# Altium footprint library STM32 V3.11.PcbLib: 42 footprints (part 3 of 3)
Each footprint in its own frame and in the unit in brackets; x right, y up, seen from the top. Pads: shape width x height; smd on the part's side, far side on the other; paste and mask are expansions set on the pad; w line width, h text height; cw(c..) or ccw(c..) is an arc to the next point about the centre after c.
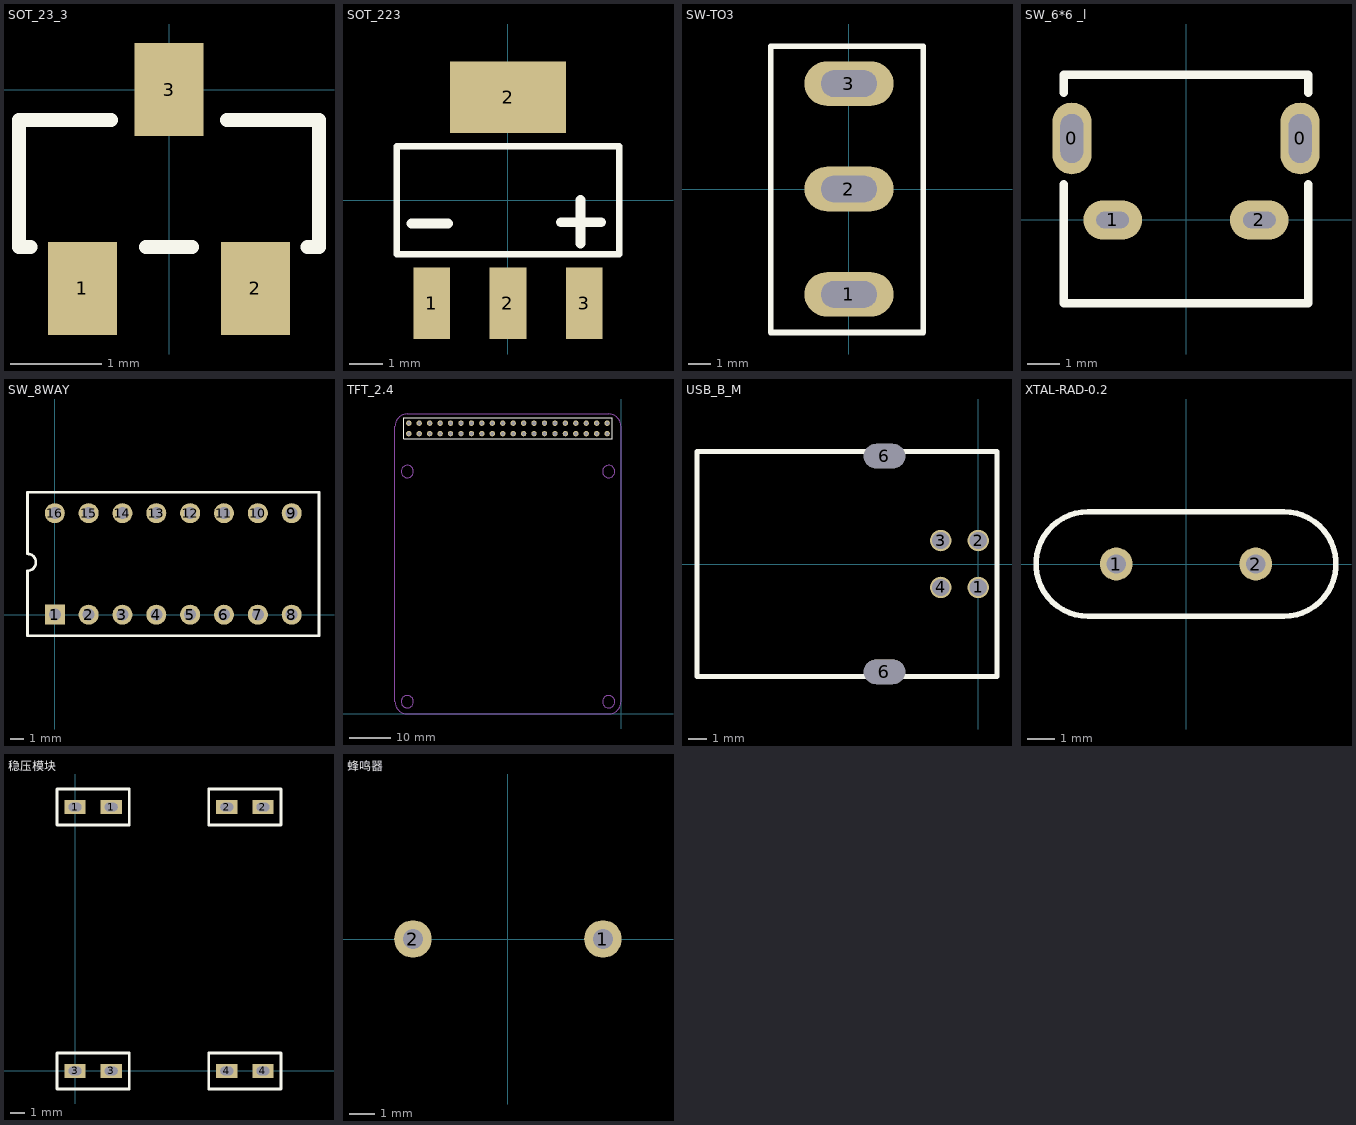
[diagram p2: the footprints below, top view; thin cyan lines are the x and y axes]

## SOT_23_3 [mm]
pads (3):
  rect 0.76x1.02 smd: 1(-0.954,-2.19) 2(0.95,-2.19) 3(0,0)
Top Overlay:
  lines w0.152: -1.525,-1.733 -1.652,-1.733 -1.652,-0.336 -0.636,-0.336 ; -0.255,-1.733 0.253,-1.733 ; 0.634,-0.336 1.65,-0.336 1.65,-1.733 1.523,-1.733
3D body: height 1.2, standoff 0, extent -1.452,-2.495 1.448,0.305

## SOT_223 [mm] "电压转换芯片"
height 1.75
pads (4):
  rect 1.1x2.15 smd: 1(-2.3,-3.1) 2(0,-3.1) 3(2.3,-3.1)
  rect 3.5x2.15 smd: 2(0,3.1)
Top Overlay:
  lines w0.2: -3.35,-1.625 -3.35,1.625 3.35,1.625 3.35,-1.625 -3.35,-1.625
  lines w0.3: -2.9,-0.7 -1.8,-0.7 ; 1.6,-0.663 2.8,-0.663 ; 2.183,-1.3 2.183,0
3D body: height 1.68, standoff 0, extent -3.25,-3.5 3.25,3.46

## SW-TO3 [mm]
height 2.38
pads (3):
  oval 4x2 hole 1.2 slot 2.5 at 0 deg: 1(0,-4.724) 2(0,0) 3(0,4.724)
Top Overlay:
  lines w0.254: -3.504,-6.433 -3.504,6.394 3.329,6.394 3.329,-6.433 -3.504,-6.433
3D body: height 28.55, standoff -3.83, extent -3.43,-6.363 3.43,6.35

## SW_6*6 _l [mm]
pads (4):
  oval 1.2x2.2 hole 0.7 slot 1.5 at 90 deg: 0(-3.5,2.5) 0(3.5,2.5)
  oval 1.8x1.2 hole 0.5 slot 1 at 0 deg: 1(-2.25,0) 2(2.25,0)
Top Overlay:
  lines w0.254: -3.75,1.1 -3.75,-2.55 0,-2.55 3.75,-2.55 3.75,1.1 ; -3.75,3.9 -3.75,4.45 0,4.45 3.75,4.45 3.75,3.9
3D body: height 3.5, standoff -7.4, extent -4.331,-3.073 4.369,4.077

## SW_8WAY [mm]
pads (16):
  rect 1.5x1.5 hole 0.9: 1(0,0)
  round 1.5 hole 0.9: 2(2.54,0) 3(5.08,0) 4(7.62,0) 5(10.16,0) 6(12.7,0) 7(15.24,0) 8(17.78,0) 9(17.78,7.62) 10(15.24,7.62) 11(12.7,7.62) 12(10.16,7.62) 13(7.62,7.62) 14(5.08,7.62) 15(2.54,7.62) 16(0,7.62)
Top Overlay:
  lines w0.2: -2.05,4.57 cw(c-2.05,3.935) -2.05,3.3 -2.05,-1.59 19.83,-1.59 19.83,9.2 -2.05,9.2 -2.05,4.6
3D body: height 7, standoff -3.7, extent -1.618,-1.168 19.702,8.732

## TFT_2.4 [mm]
pads (40):
  round 1.3 / inner round 1.5 / far side round 1.5 hole 0.9: 1(-3.38,70.77) 2(-3.38,68.23) 3(-5.92,70.77) 4(-5.92,68.23) 5(-8.46,70.77) 6(-8.46,68.23) 7(-11,70.77) 8(-11,68.23) 9(-13.54,70.77) 10(-13.54,68.23) 11(-16.08,70.77) 12(-16.08,68.23) 13(-18.62,70.77) 14(-18.62,68.23) 15(-21.16,70.77) 16(-21.16,68.23) 17(-23.7,70.77) 18(-23.7,68.23) 19(-26.24,70.77) 20(-26.24,68.23) 21(-28.78,70.77) 22(-28.78,68.23) 23(-31.32,70.77) 24(-31.32,68.23) 25(-33.86,70.77) 26(-33.86,68.23) 27(-36.4,70.77) 28(-36.4,68.23) 29(-38.94,70.77) 30(-38.94,68.23) 31(-41.48,70.77) 32(-41.48,68.23) 33(-44.02,70.77) 34(-44.02,68.23) 35(-46.56,70.77) 36(-46.56,68.23) 37(-49.1,70.77) 38(-49.1,68.23) 39(-51.64,70.77) 40(-51.64,68.23)
Top Overlay:
  lines w0.2: -52.91,66.96 -52.91,72.04 -2.11,72.04 -2.11,66.96 -52.91,66.96
Mechanical 1:
  circle w0.254: c-3,3 r1.5
  circle w0.254: c-52,3 r1.5
  circle w0.254: c-52,59 r1.5
  circle w0.254: c-3,59 r1.5
  lines w0.254: -55,3 ccw(c-52,3) -52,0 -3,0 ccw(c-3,3) 0,3 0,70 ccw(c-3,70) -3,73 -52,73 ccw(c-52,70) -55,70 -55,3
3D body: height 8.2, standoff -3.1, extent -52.88,69.5 -50.34,72.04
3D body: height 8.2, standoff -3.1, extent -50.34,69.5 -47.8,72.04
3D body: height 8.2, standoff -3.1, extent -52.88,66.96 -50.34,69.5
3D body: height 8.2, standoff -3.1, extent -50.34,66.96 -47.8,69.5
3D body: height 8.2, standoff -3.1, extent -47.8,69.5 -45.26,72.04
3D body: height 8.2, standoff -3.1, extent -45.26,69.5 -42.72,72.04
3D body: height 8.2, standoff -3.1, extent -47.8,66.96 -45.26,69.5
3D body: height 8.2, standoff -3.1, extent -45.26,66.96 -42.72,69.5
3D body: height 8.2, standoff -3.1, extent -42.72,69.5 -40.18,72.04
3D body: height 8.2, standoff -3.1, extent -40.18,69.5 -37.64,72.04
3D body: height 8.2, standoff -3.1, extent -42.72,66.96 -40.18,69.5
3D body: height 8.2, standoff -3.1, extent -40.18,66.96 -37.64,69.5
3D body: height 8.2, standoff -3.1, extent -4.62,66.96 -2.08,69.5
3D body: height 8.2, standoff -3.1, extent -7.16,66.96 -4.62,69.5
3D body: height 8.2, standoff -3.1, extent -4.62,69.5 -2.08,72.04
3D body: height 8.2, standoff -3.1, extent -7.16,69.5 -4.62,72.04
3D body: height 8.2, standoff -3.1, extent -9.7,66.96 -7.16,69.5
3D body: height 8.2, standoff -3.1, extent -12.24,66.96 -9.7,69.5
3D body: height 8.2, standoff -3.1, extent -9.7,69.5 -7.16,72.04
3D body: height 8.2, standoff -3.1, extent -12.24,69.5 -9.7,72.04
3D body: height 8.2, standoff -3.1, extent -14.78,66.96 -12.24,69.5
3D body: height 8.2, standoff -3.1, extent -17.32,66.96 -14.78,69.5
3D body: height 8.2, standoff -3.1, extent -14.78,69.5 -12.24,72.04
3D body: height 8.2, standoff -3.1, extent -17.32,69.5 -14.78,72.04
3D body: height 8.2, standoff -3.1, extent -19.86,66.96 -17.32,69.5
3D body: height 8.2, standoff -3.1, extent -22.4,66.96 -19.86,69.5
3D body: height 8.2, standoff -3.1, extent -19.86,69.5 -17.32,72.04
3D body: height 8.2, standoff -3.1, extent -22.4,69.5 -19.86,72.04
3D body: height 8.2, standoff -3.1, extent -24.94,66.96 -22.4,69.5
3D body: height 8.2, standoff -3.1, extent -27.48,66.96 -24.94,69.5
3D body: height 8.2, standoff -3.1, extent -24.94,69.5 -22.4,72.04
3D body: height 8.2, standoff -3.1, extent -27.48,69.5 -24.94,72.04
3D body: height 8.2, standoff -3.1, extent -30.02,66.96 -27.48,69.5
3D body: height 8.2, standoff -3.1, extent -32.56,66.96 -30.02,69.5
3D body: height 8.2, standoff -3.1, extent -30.02,69.5 -27.48,72.04
3D body: height 8.2, standoff -3.1, extent -32.56,69.5 -30.02,72.04
3D body: height 8.2, standoff -3.1, extent -35.1,66.96 -32.56,69.5
3D body: height 8.2, standoff -3.1, extent -37.64,66.96 -35.1,69.5
3D body: height 8.2, standoff -3.1, extent -35.1,69.5 -32.56,72.04
3D body: height 8.2, standoff -3.1, extent -37.64,69.5 -35.1,72.04

## USB_B_M [mm]
pads (6):
  round 1.143 / inner round 1.524 / far side round 1.524 hole 0.92: 1(0,-1.23) 2(0,1.27) 3(-2,1.27) 4(-2,-1.23)
  oval 2.2x1.3 / inner oval 3x2 / far side oval 3x2 hole 1.3 slot 2.2 at 0 deg: 6(-5,-5.73)
  oval 2.2x1.2 / inner oval 3x2 / far side oval 3x2 hole 1.3 slot 2.2 at 0 deg: 6(-5,5.77)
Top Overlay:
  lines w0.254: -15,-5.98 1,-5.98 1,6.02 -15,6.02 -15,-5.98
3D body: height 10.75, standoff -3.47, extent -15.421,-7.379 0.879,7.479

## XTAL-RAD-0.2 [mm]
pads (2):
  round 1.2 hole 0.7: 1(-2.54,0) 2(2.54,0)
Top Overlay:
  lines w0.203: -3.556,-1.905 cw(c-3.556,0) -3.556,1.905 3.556,1.905 cw(c3.556,0) 3.556,-1.905 -3.556,-1.905
3D body: height 3.22, standoff -2.41, extent -5.334,-2.054 5.334,2.054

## 稳压模块 [mm]
pads (8):
  rect 1.5x1 hole 0.6 slot 0.9 at 0 deg: 1(0,18.542) 1(2.54,18.542) 2(10.668,18.542) 2(13.208,18.542) 3(0,0) 3(2.54,0) 4(10.668,0) 4(13.208,0)
Top Overlay:
  lines w0.2: -1.27,-1.27 -1.27,1.27 3.81,1.27 3.81,-1.27 -1.27,-1.27 ; -1.27,17.272 -1.27,19.812 3.81,19.812 3.81,17.272 -1.27,17.272 ; 9.398,-1.27 9.398,1.27 14.478,1.27 14.478,-1.27 9.398,-1.27 ; 9.398,17.272 14.478,17.272 14.478,19.812 9.398,19.812 9.398,17.272
3D body: height 8.6, standoff -2.55, extent 9.461,17.018 14.414,20.066
3D body: height 8.6, standoff -2.55, extent -1.206,17.018 3.746,20.066
3D body: height 8.6, standoff -2.55, extent 9.461,-1.524 14.414,1.524
3D body: height 8.6, standoff -2.55, extent -1.206,-1.524 3.746,1.524

## 蜂鸣器 [mm]
pads (2):
  round 1.5 hole 0.8: 1(3.81,0) 2(-3.79,0)
Bottom Overlay:
  circle w0.254: c0.011,0 r6.001
  lines w0.254: 1.01,0 2.51,0 ; 1.81,-0.9 1.81,0.9
3D body: height 9.65, standoff -4.5, extent -5.917,-6 9.537,6